# Altium schematic symbol library my_schem.SchLib: 16 symbols
Pins are listed as number, name and electrical type; pins without a type are passive.

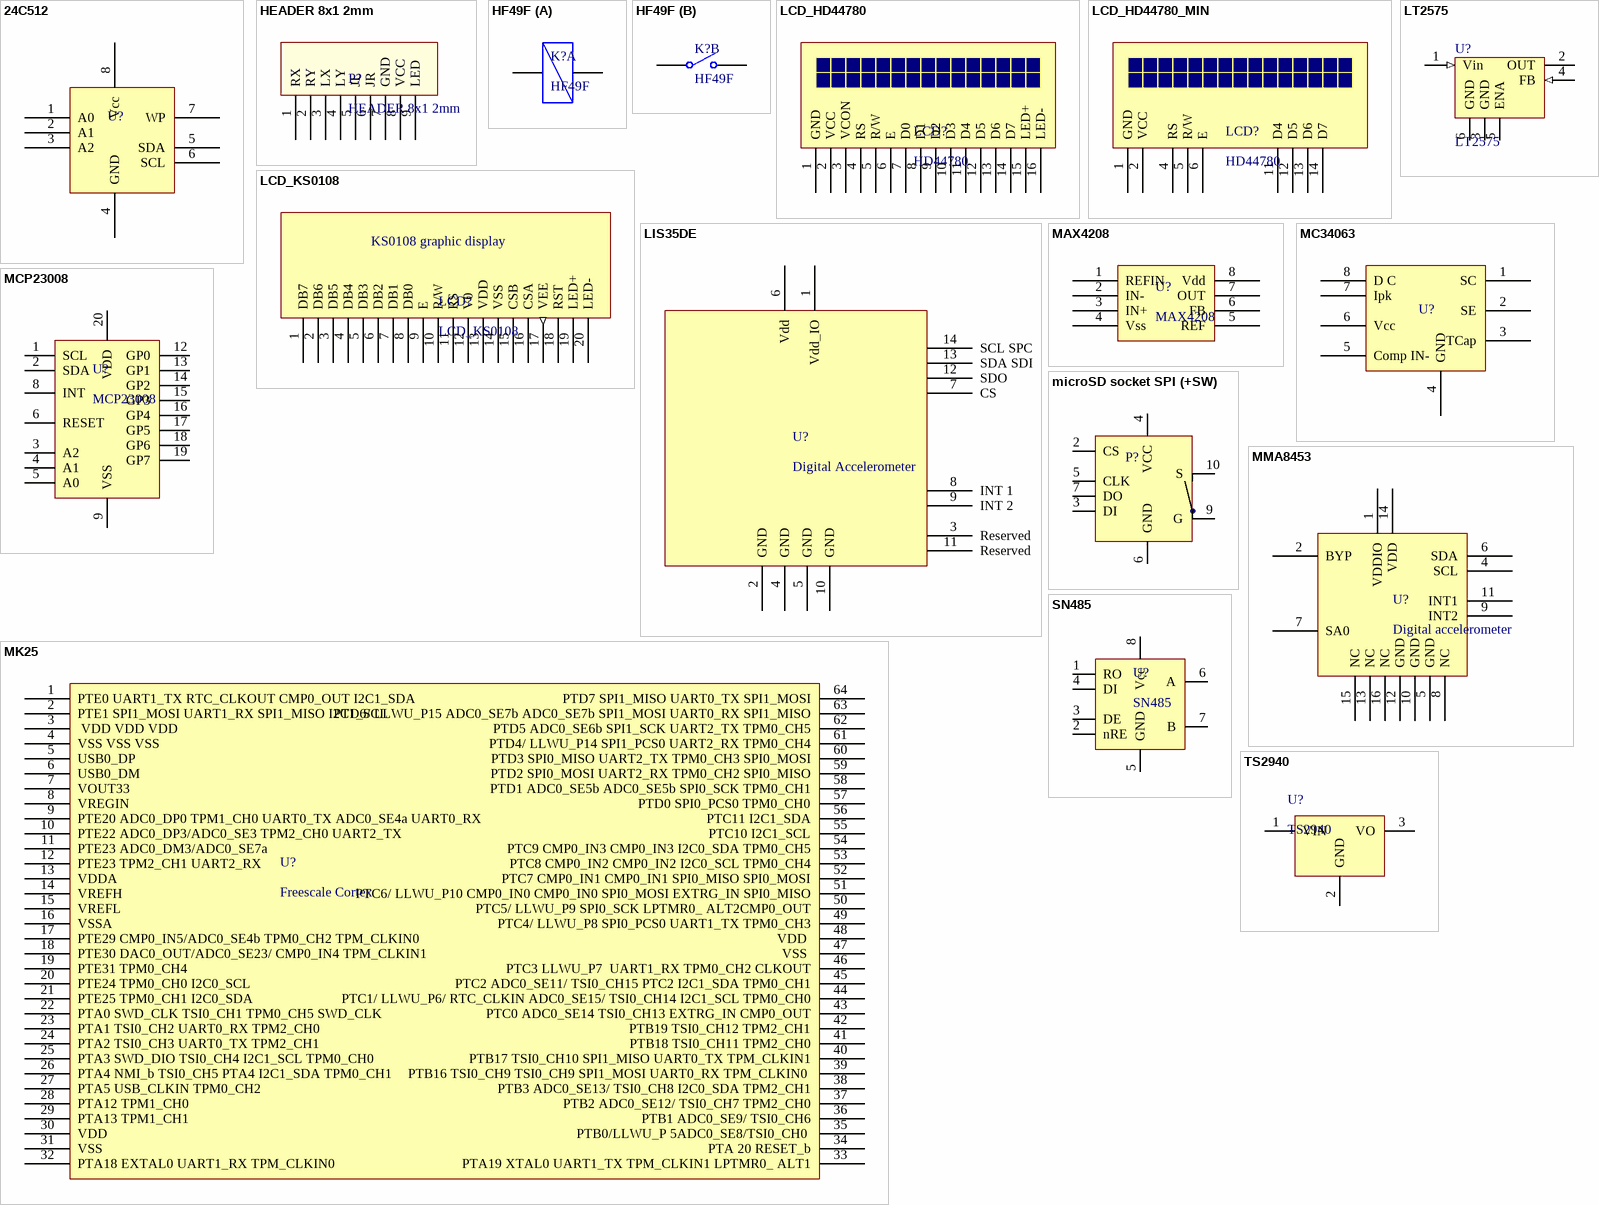
[diagram p0: symbols 24C512 to TS2940]

## 24C512
designator U?
512kb I2C EEPROM
footprint SOIC-8
pins: 1 A0, 2 A1, 3 A2, 4 GND, 5 SDA, 6 SCL, 7 WP, 8 Vcc

## HEADER 8x1 2mm
designator P?
footprint PS2_JOY_PCB
pins: 1 RX, 2 RY, 3 LX, 4 LY, 5 JL, 6 JR, 7 GND, 8 VCC, 9 LED

## HF49F
designator K?
footprint HF49F (MINIATURE 5A/250VAC RElaY)
part A pins: 3, 4
part B pins: 1, 2

## LCD_HD44780
designator LCD?, comment HD44780
footprint LCD_4X20
footprint LCD_2x16
pins: 1 GND, 2 VCC, 3 VCON, 4 RS, 5 R/W, 6 E, 7 D0, 8 D1, 9 D2, 10 D3, 11 D4, 12 D5, 13 D6, 14 D7, 15 LED+, 16 LED-

## LCD_HD44780_MIN
designator LCD?, comment HD44780
footprint LCD_2x8
pins: 1 GND, 2 VCC, 4 RS, 5 R/W, 6 E, 11 D4, 12 D5, 13 D6, 14 D7

## LCD_KS0108
designator LCD?
footprint LCD_GRAPH_192x64
pins: 1 DB7, 2 DB6, 3 DB5, 4 DB4, 5 DB3, 6 DB2, 7 DB1, 8 DB0, 9 E, 10 R/W, 11 RS, 12 V0, 13 VDD, 14 VSS, 15 CSB, 16 CSA, 17 VEE (out), 18 RST, 19 LED+, 20 LED-
text: KS0108 graphic display

## LIS35DE
designator U?, comment Digital Accelerometer
footprint LGA14
pins: 1 Vdd_IO, 2 GND, 3 Reserved, 4 GND, 5 GND, 6 Vdd, 7 CS, 8 INT 1, 9 INT 2, 10 GND, 11 Reserved, 12 SDO, 13 SDA SDI, 14 SCL SPC

## LT2575
designator U?
3-A High-Efficiency Switching Regulator; Note: Case is Pin 5, is GND.; Published: 15-Apr-2002; DatasheetVersion: Oct-1988; PackageVersion: 1989; PackageReference: KJ004; Publisher: Altium Limited; PackageDescription: Oval Flange Mount; 4 Leads; Pin Circle Dia. 11.94 mm; Lead Dia. 1.09 mm (max); ComponentLink1Description: Manufacturer Link; ComponentLink1URL: http://www.ti.com/
footprint TO-263; pin to pad 3>3+6
pins: 1 Vin (in), 2 OUT, 3 GND, 4 FB (in), 5 ENA, 6 GND

## MAX4208
designator U?
Instrumentional amp
footprint TSOP65P490-8AL (TSOP, 8-Leads, Body 3x3mm, Pitch 0.65mm, IPC High Density)
pins: 1 REFIN, 2 IN-, 3 IN+, 4 Vss, 5 REF, 6 FB, 7 OUT, 8 Vdd

## MC34063
designator U?
footprint SOIC-8
pins: 1 SC, 2 SE, 3 TCap, 4 GND, 5 Comp IN-, 6 Vcc, 7 Ipk, 8 D C

## MCP23008
designator U?
Port expander
footprint SSOP-20
pins: 1 SCL, 2 SDA, 3 A2, 4 A1, 5 A0, 6 RESET, 8 INT, 9 VSS, 12 GP0, 13 GP1, 14 GP2, 15 GP3, 16 GP4, 17 GP5, 18 GP6, 19 GP7, 20 VDD

## microSD socket SPI (+SW)
designator P?, comment SD CARD  (value not drawn)
footprint microSD (ATTEND  112A-TAAR-R02)
pins: 2 CS, 3 DI, 4 VCC, 5 CLK, 6 GND, 7 DO, 9 G, 10 S

## MK25
designator U?, comment Freescale Cortex
pins: 1 PTE0 UART1_TX RTC_CLKOUT CMP0_OUT I2C1_SDA, 2 PTE1 SPI1_MOSI UART1_RX SPI1_MISO I2C1_SCL, 3  VDD VDD VDD, 4 VSS VSS VSS, 5 USB0_DP, 6 USB0_DM, 7 VOUT33 , 8 VREGIN , 9 PTE20 ADC0_DP0 TPM1_CH0 UART0_TX ADC0_SE4a UART0_RX, 10 PTE22 ADC0_DP3/ADC0_SE3 TPM2_CH0 UART2_TX, 11 PTE23 ADC0_DM3/ADC0_SE7a, 12 PTE23 TPM2_CH1 UART2_RX, 13 VDDA , 14 VREFH , 15 VREFL , 16 VSSA , 17 PTE29 CMP0_IN5/ADC0_SE4b TPM0_CH2 TPM_CLKIN0, 18 PTE30 DAC0_OUT/ADC0_SE23/ CMP0_IN4 TPM_CLKIN1, 19 PTE31 TPM0_CH4, 20 PTE24 TPM0_CH0 I2C0_SCL, 21 PTE25 TPM0_CH1 I2C0_SDA, 22 PTA0 SWD_CLK TSI0_CH1 TPM0_CH5 SWD_CLK, 23 PTA1 TSI0_CH2 UART0_RX TPM2_CH0, 24 PTA2 TSI0_CH3 UART0_TX TPM2_CH1, 25 PTA3 SWD_DIO TSI0_CH4 I2C1_SCL TPM0_CH0, 26 PTA4 NMI_b TSI0_CH5 PTA4 I2C1_SDA TPM0_CH1, 27 PTA5 USB_CLKIN TPM0_CH2, 28 PTA12 TPM1_CH0, 29 PTA13 TPM1_CH1, 30 VDD, 31 VSS, 32 PTA18 EXTAL0 UART1_RX TPM_CLKIN0, 33 PTA19 XTAL0 UART1_TX TPM_CLKIN1 LPTMR0_ ALT1, 34 PTA 20 RESET_b, 35 PTB0/LLWU_P 5ADC0_SE8/TSI0_CH0 , 36 PTB1 ADC0_SE9/ TSI0_CH6, 37 PTB2 ADC0_SE12/ TSI0_CH7 TPM2_CH0, 38 PTB3 ADC0_SE13/ TSI0_CH8 I2C0_SDA TPM2_CH1, 39 PTB16 TSI0_CH9 TSI0_CH9 SPI1_MOSI UART0_RX TPM_CLKIN0 , 40 PTB17 TSI0_CH10 SPI1_MISO UART0_TX TPM_CLKIN1, 41 PTB18 TSI0_CH11 TPM2_CH0, 42 PTB19 TSI0_CH12 TPM2_CH1, 43 PTC0 ADC0_SE14 TSI0_CH13 EXTRG_IN CMP0_OUT, 44 PTC1/ LLWU_P6/ RTC_CLKIN ADC0_SE15/ TSI0_CH14 I2C1_SCL TPM0_CH0, 45 PTC2 ADC0_SE11/ TSI0_CH15 PTC2 I2C1_SDA TPM0_CH1, 46 PTC3 LLWU_P7  UART1_RX TPM0_CH2 CLKOUT, 47 VSS , 48 VDD , 49 PTC4/ LLWU_P8 SPI0_PCS0 UART1_TX TPM0_CH3, 50 PTC5/ LLWU_P9 SPI0_SCK LPTMR0_ ALT2CMP0_OUT, 51 PTC6/ LLWU_P10 CMP0_IN0 CMP0_IN0 SPI0_MOSI EXTRG_IN SPI0_MISO, 52 PTC7 CMP0_IN1 CMP0_IN1 SPI0_MISO SPI0_MOSI, 53 PTC8 CMP0_IN2 CMP0_IN2 I2C0_SCL TPM0_CH4, 54 PTC9 CMP0_IN3 CMP0_IN3 I2C0_SDA TPM0_CH5, 55 PTC10 I2C1_SCL, 56 PTC11 I2C1_SDA, 57 PTD0 SPI0_PCS0 TPM0_CH0, 58 PTD1 ADC0_SE5b ADC0_SE5b SPI0_SCK TPM0_CH1, 59 PTD2 SPI0_MOSI UART2_RX TPM0_CH2 SPI0_MISO, 60 PTD3 SPI0_MISO UART2_TX TPM0_CH3 SPI0_MOSI, 61 PTD4/ LLWU_P14 SPI1_PCS0 UART2_RX TPM0_CH4, 62 PTD5 ADC0_SE6b SPI1_SCK UART2_TX TPM0_CH5, 63 PTD6/ LLWU_P15 ADC0_SE7b ADC0_SE7b SPI1_MOSI UART0_RX SPI1_MISO, 64 PTD7 SPI1_MISO UART0_TX SPI1_MOSI

## MMA8453
designator U?, comment Digital accelerometer
pins: 1 VDDIO, 2 BYP, 4 SCL, 5 GND, 6 SDA, 7 SA0, 8 NC, 9 INT2, 10 GND, 11 INT1, 12 GND, 13 NC, 14 VDD, 15 NC, 16 NC

## SN485
designator U?
footprint SOIC-8
pins: 1 RO, 2 nRE, 3 DE, 4 DI, 5 GND, 6 A, 7 B, 8 Vcc

## TS2940
designator U?
Line voltage regulator; Published: 29-Jan-2009; DatasheetVersion: revB, Feb-2008; PackageVersion: revAW, Oct-2008; PackageReference: SOT-23A-CB3; Publisher: Altium Limited; PackageDescription: 3-Lead Plastic Small Outline Transistor (CB) [SOT-23A]; ComponentLink1Description: Manufacturer Link; ComponentLink1URL: http://www.microchip.com; ComponentLink2Description: Datasheet; ComponentLink2URL: http://ww1.microchip.com/downloads/en/DeviceDoc/22049b.pdf; ComponentLink3Description: Packaging Specification; ComponentLink3URL: http://ww1.microchip.com/downloads/en/PackagingSpec/00049AW.pdf
footprint DDPAK-EB3_L (D2-PAK, 4-Leads, Body 9x10.2mm, Pitch 2.54mm, Lead Span 14.9mm, IPC High Density)
footprint TO-252
pins: 1 VIN (power), 2 GND (power), 3 VO (power)